# Altium schematic symbol library EL-sense_LED_Lighting_Drivers.SchLib: 1 symbol
Pins are listed as number, name and electrical type; pins without a type are passive.

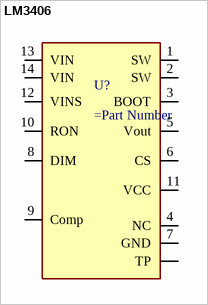
[diagram p0: symbol LM3406]

## LM3406
designator U?
pins: 1 SW, 2 SW, 3 BOOT, 4 NC, 5 Vout, 6 CS, 7 GND, 8 DIM, 9 Comp, 10 RON, 11 VCC, 12 VINS, 13 VIN, 14 VIN, TP